# Altium schematic symbol library Connectors.SchLib: 50 symbols
Pins are listed as number, name and electrical type; pins without a type are passive.

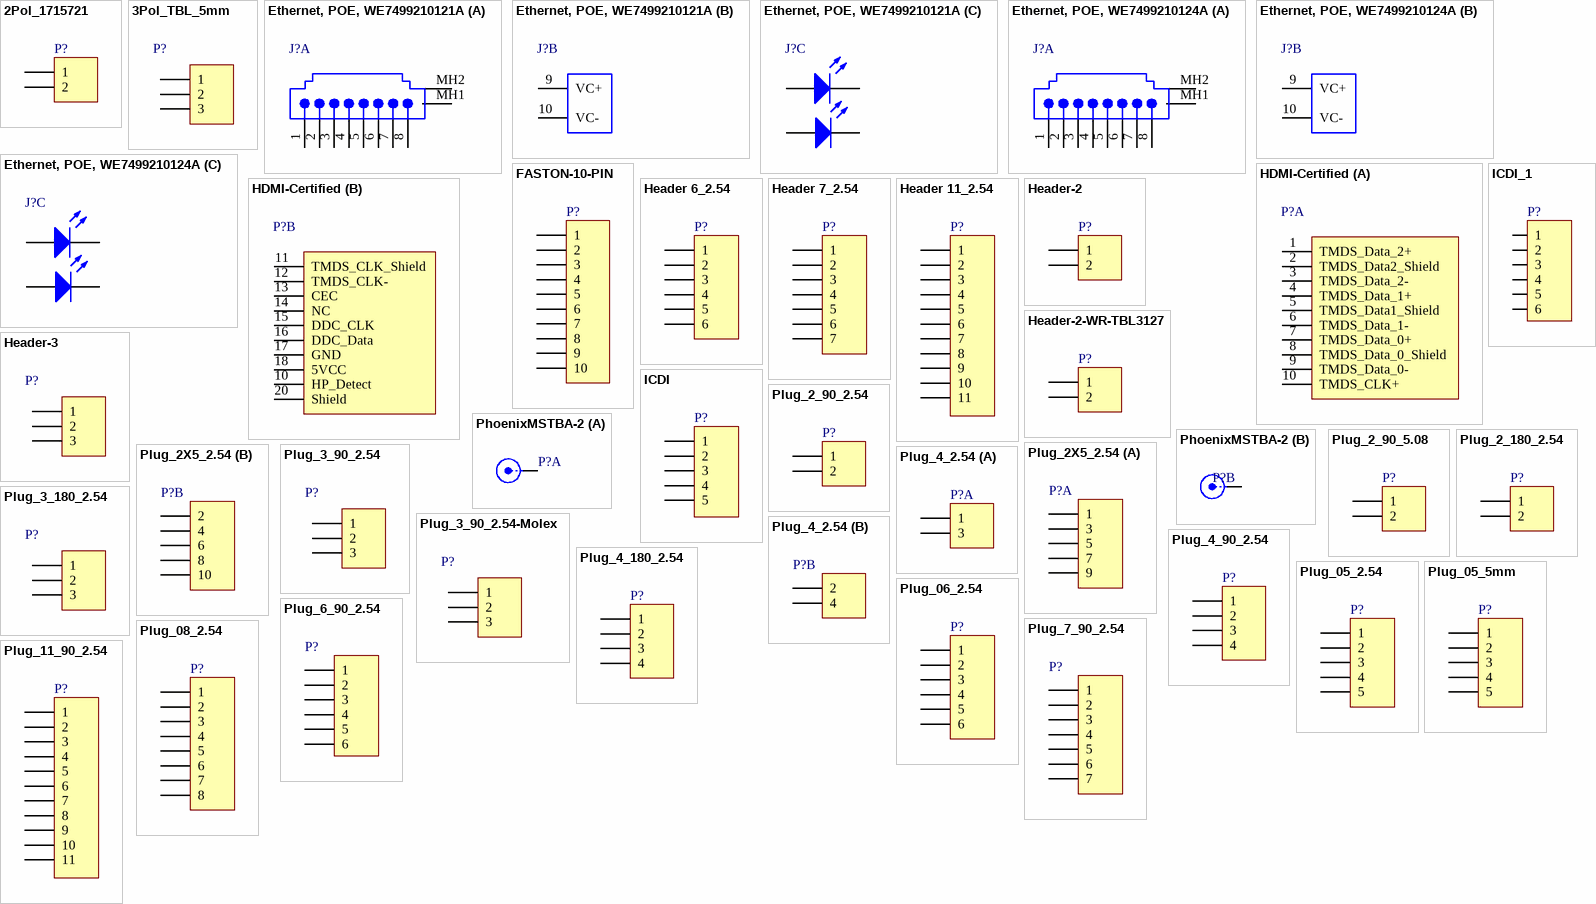
[diagram p0: symbols 2Pol_1715721 to Plug_11_90_2.54]

## 2Pol_1715721
designator P?, comment PHOENIX_1715721  (value not drawn)
Phoenix, 2 pol, 5.08mm, 22A, 715721; Deliverer PartNr: 193-0564; Deliverer: RS; TDE-PN: CON0008; LatestRevisionDate: 02.05.2014; LatestRevisionNote: Re-released for DXP Platform.; Publisher: Sebastian Kulik; Manufacturer PartNr: 1715721; Manufacturer: Phoenix; PackageDescription: Phoenix-2-5_08
signal-integrity model Connector
footprint Phoenix-2-5_08 (Phoenix, 1715721)
pins: 1, 2

## 3Pol_TBL_5mm
designator P?  (value not drawn)
Plug,-3-Pin; Manufacturer: WE; Manufacturer PartNr: 691102710003; Deliverer PartNr: 826-7220; Deliverer: RS; TDE-PN: CON0044; Publisher: Sebastian Kulik; Price: 1.26/1
footprint WE-TBL3-5 (WE, 691102710003)
pins: 1, 2, 3

## Ethernet, POE, WE7499210121A
designator J?, comment 7499210121A  (value not drawn)
Modular Jack , Right Angle RJ-45, Low Profile; Deliverer PartNr: 1636396; Manufacturer: Wuerth Elektronik; Ports: 1; PCB_Mounting: Thru-Hole; Deliverer: Farnell; TDE-PN: CON0005; PackageDescription: 7499210121A; Publisher: Sebastian Kulik; Manufacturer PartNr: 7499210121A
footprint 7499210121A (Connector; PCB Jack, Thru-Hole; RJ45,POE; Shielded with Lightpipes; Right Angle)
signal-integrity model Modular Jack
part A pins: 1, 2, 3, 4, 5, 6, 7, 8, MH1 Shield, MH2 Shield
part B pins: 9 VC+, 10 VC-
part C pins: 11 K, 12 A, 13 A, 14 K

## Ethernet, POE, WE7499210124A
designator J?, comment 7499210124A  (value not drawn)
Modular Jack , Right Angle RJ-45, Low Profile; Manufacturer: Wuerth Elektronik; Ports: 1; PCB_Mounting: Thru-Hole; Deliverer: WE; TDE-PN: CON0013; PackageDescription: 7499210124A; Publisher: Sebastian Kulik; Deliverer PartNr: 7499210124A; Manufacturer PartNr: 7499210124A
footprint 7499210124A (Connector; PCB Jack, Thru-Hole; RJ45,POE; Shielded with Lightpipes; Right Angle)
signal-integrity model Modular Jack
part A pins: 1, 2, 3, 4, 5, 6, 7, 8, MH1 Shield, MH2 Shield
part B pins: 9 VC+, 10 VC-
part C pins: 11 K, 12 A, 13 K, 14 A

## FASTON-10-PIN
designator P?  (value not drawn)
Manufacturer PartNr: 7460553; Manufacturer: WE; TDE-PN: CON0034; LatestRevisionDate: 07.11.2014; LatestRevisionNote: Re-released for DXP Platform.; Publisher: Sebastian Kulik; Deliverer: WE; Deliverer PartNr: 7460553
footprint FASTON_DOUBLE
signal-integrity model Connector
footprint FASTON_DOUBLE-WE (We-7460553)
pins: 1, 2, 3, 4, 5, 6, 7, 8, 9, 10

## HDMI-Certified
designator P?  (value not drawn)
Molex, HDMI; Deliverer PartNr: 1654540; Manufacturer PartNr: 47151-0001; PCB_Mounting: SMT; Deliverer: Farnell; TDE-PN: CON0002; PackageDescription: 47151-0001; Publisher: Sebastian Kulik; Manufacturer: Molex
footprint HDMI-Certified (Molex,47151-0001)
signal-integrity model Modular Jack
part A pins: 1 TMDS_Data_2+, 2 TMDS_Data2_Shield, 3 TMDS_Data_2-, 4 TMDS_Data_1+, 5 TMDS_Data1_Shield, 6 TMDS_Data_1-, 7 TMDS_Data_0+, 8 TMDS_Data_0_Shield, 9 TMDS_Data_0-, 10 TMDS_CLK+
part B pins: 10 HP_Detect, 11 TMDS_CLK_Shield, 12 TMDS_CLK-, 13 CEC, 14 NC, 15 DDC_CLK, 16 DDC_Data, 17 GND, 18 5VCC, 20 Shield

## Header 6_2.54
designator P?  (value not drawn)
Header, 6-Pin; LatestRevisionDate: 17-Jul-2002; LatestRevisionNote: Re-released for DXP Platform.; Publisher: Altium Limited
signal-integrity model Connector
footprint HDR1X6_2.54 (Connector; Header; 6 Position)
pins: 1, 2, 3, 4, 5, 6

## Header 7_2.54
designator P?  (value not drawn)
Header, 7-Pin; LatestRevisionDate: 17-Jul-2002; LatestRevisionNote: Re-released for DXP Platform.; Publisher: Altium Limited
footprint HDR1X7_2.54 (Connector; Header; 7 Position)
signal-integrity model Connector
pins: 1, 2, 3, 4, 5, 6, 7

## Header 11_2.54
designator P?  (value not drawn)
Header, 11-Pin; LatestRevisionDate: 17-Jul-2002; LatestRevisionNote: Re-released for DXP Platform.; Publisher: Altium Limited
footprint HDR1X11_2.54 (Connector; Header; 11 Position)
signal-integrity model Connector
footprint HDR1X11_2.54_SMD (Connector; Header; 11 Position)
footprint HDR1X11_2.54-DOWN (Connector; Header; 11 Position)
pins: 1, 2, 3, 4, 5, 6, 7, 8, 9, 10, 11

## Header-2
designator P?  (value not drawn)
Header, 2-Pin; LatestRevisionDate: 18.02.2014; LatestRevisionNote: Re-released for DXP Platform.; Publisher: Sebastian Kulik
footprint HDR1X2 (Connector; Header; 2 Position)
signal-integrity model Connector
footprint HDR1X2-SMD (Connector; Header; 2 Position)
footprint HDR1X2-down (Connector; Header; 2 Position)
pins: 1, 2

## Header-2-WR-TBL3127
designator P?, comment WR-TBL3127  (value not drawn)
Header 2 pin, horizontal,WR-TBL3127; Manufacturer PartNr: 691312710002; Manufacturer: WE; Deliverer PartNr: 1841288; Deliverer: Farnell; TDE-PN: CON0014; LatestRevisionDate: 28.05.2014; LatestRevisionNote: Re-released for DXP Platform.; Publisher: Sebastian Kulik; PackageDescription: WR-TBL-3127
signal-integrity model Connector
footprint WR-TBL-3127 (Header horizontal, 2 pins)
pins: 1, 2

## Header-3
designator P?  (value not drawn)
Header-3-Pin; Publisher: Sebastian Kulik
footprint HDR1X3 (Connector; Header; 3 Position)
footprint HDR1X3-SMD (Connector; Header; 3 Position)
footprint HDR1X3-DOWN (Connector; Header; 3 Position)
pins: 1, 2, 3

## ICDI
designator P?  (value not drawn)
Header, 5-Pin; LatestRevisionDate: 17-Jul-2002; LatestRevisionNote: Re-released for DXP Platform.; Publisher: Sebastian Kulik; PackageDescription: HDR1X1.27
footprint HDR1X5-1.27 (Connector; Header; 5 Position)
signal-integrity model Connector
pins: 1, 2, 3, 4, 5

## ICDI_1
designator P?, comment JTAG  (value not drawn)
Header, 6-Pin; LatestRevisionDate: 17-Jul-2002; LatestRevisionNote: Re-released for DXP Platform.; Publisher: Sebastian Kulik; PackageDescription: HDR1X1.27
footprint HDR1X6-1.27 (Connector; Header; 6 Position)
signal-integrity model Connector
pins: 1, 2, 3, 4, 5, 6

## PhoenixMSTBA-2
designator P?  (value not drawn)
Deliverer PartNr: 2315182; Manufacturer PartNr: MSTBA 2,5/ 2-G-5,08-LR; Manufacturer: Phoenix Contact; Deliverer: Farnell; TDE-PN: CON0006; LatestRevisionDate: 13.03.2014; LatestRevisionNote: Re-released for DXP Platform.; Publisher: Sebastian Kulik; PackageDescription: MSTBA 2,5_2-G-5,08-LR
footprint MSTBA 2,5_2-G-5,08-LR
signal-integrity model Connector
part A pins: 1 X
part B pins: 2 Y

## Plug_2_90_2.54
designator P?  (value not drawn)
Plug, 2-Pin; Manufacturer PartNr: 61300211021; Manufacturer: WE; Deliverer PartNr: 2356176; Deliverer: Farnell; TDE-PN: CON0010; LatestRevisionDate: 14.05.2014; LatestRevisionNote: Re-released for DXP Platform.; Publisher: Sebastian Kulik
footprint HDR1X2 (Connector; Header; 2 Position)
signal-integrity model Connector
footprint HDR1X2-SMD (Connector; Header; 2 Position)
footprint HDR1X2-down (Connector; Header; 2 Position)
pins: 1, 2

## Plug_2_90_5.08
designator P?  (value not drawn)
Plug, 2-Pin; Manufacturer PartNr: FWS-02-02-T-S-RA; Manufacturer: Samtec; Deliverer PartNr: 1936038; Deliverer: Farnell; TDE-PN: CON0012; LatestRevisionDate: 19.05.2014; LatestRevisionNote: Re-released for DXP Platform.; Publisher: Sebastian Kulik
signal-integrity model Connector
footprint HeaderPower-2-5_08 (Samtec, FWS-02-02-T-S-RA)
footprint HeaderPower-2-5_08-hor (Samtec, FWS-02-02-T-S-RA)
pins: 1, 2

## Plug_2_180_2.54
designator P?  (value not drawn)
Plug, 2-Pin; Manufacturer PartNr: 61300211121; Manufacturer: WE; Deliverer PartNr: 828-1581; Deliverer: RS; TDE-PN: CON0010; LatestRevisionDate: 14.05.2014; LatestRevisionNote: Re-released for DXP Platform.; Publisher: Sebastian Kulik; Price: 0.118/5
footprint HDR1X2 (Connector; Header; 2 Position)
signal-integrity model Connector
pins: 1, 2

## Plug_2X5_2.54
designator P?  (value not drawn)
Plug, 2x5-Pin; Manufacturer PartNr: 6130102121; Manufacturer: WE; Deliverer: Farnell; TDE-PN: CON0016; LatestRevisionDate: 19.05-.2014; LatestRevisionNote: Re-released for DXP Platform.; Publisher: Sebastian Kulik; Deliverer PartNr: 6130102121; PackageDescription: HDR2x5
footprint HDR2X5 (Connector; Header; 10 Position)
signal-integrity model Connector
part A pins: 1, 3, 5, 7, 9
part B pins: 2, 4, 6, 8, 10

## Plug_3_90_2.54
designator P?  (value not drawn)
Plug,-3-Pin; Manufacturer: WE; Manufacturer PartNr: 61300311021; Deliverer PartNr: 828-1585; Deliverer: RS; TDE-PN: CON0011; Publisher: Sebastian Kulik; Price: 0.138/5
footprint HDR1X3 (Connector; Header; 3 Position)
pins: 1, 2, 3

## Plug_3_90_2.54-Molex
designator P?  (value not drawn)
Plug,-3-Pin; Manufacturer: Molex; Deliverer PartNr: 1462950; Deliverer: Farnell; TDE-PN: CON0038; Publisher: Sebastian Kulik; Manufacturer PartNr: 22-23-2031
footprint 22-23-2031
pins: 1, 2, 3

## Plug_3_180_2.54
designator P?  (value not drawn)
Plug,-3-Pin; Manufacturer: WE; Manufacturer PartNr: 61300311021; TDE-PN: CON0040; Publisher: Sebastian Kulik; Deliverer: WE; Deliverer PartNr: 61300311021
footprint HDR1X3-SMD (Connector; Header; 3 Position)
footprint HDR1X3-DOWN (Connector; Header; 3 Position)
pins: 1, 2, 3

## Plug_4_2.54
designator P?  (value not drawn)
Plug, 4-Pin; Manufacturer PartNr: 61300421121; Manufacturer: WE; TDE-PN: CON0017; LatestRevisionDate: 19.05.2014; LatestRevisionNote: Re-released for DXP Platform.; Publisher: Sebastian Kulik; Deliverer: WE; Deliverer PartNr: 61300421121; PackageDescription: HDR2X2
footprint HDR2X2 (Connector; Header; 4 Position)
signal-integrity model Connector
part A pins: 1, 3
part B pins: 2, 4

## Plug_4_90_2.54
designator P?  (value not drawn)
Plug, 4-Pin; Manufacturer PartNr: 613 004 111 21; Manufacturer: WE; TDE-PN: CON0033; LatestRevisionDate: 06.11.2014; LatestRevisionNote: Re-released for DXP Platform.; Publisher: Sebastian Kulik; Deliverer: WE; Deliverer PartNr: 613 004 111 21
footprint HDR1X4 (Connector; Header; 4 Position)
signal-integrity model Connector
pins: 1, 2, 3, 4

## Plug_4_180_2.54
designator P?  (value not drawn)
Plug, 4-Pin; Manufacturer PartNr: 61300411021; Manufacturer: WE; TDE-PN: CON0041; LatestRevisionDate: 28.01.2015; LatestRevisionNote: Re-released for DXP Platform.; Publisher: Sebastian Kulik; Deliverer: WE; Deliverer PartNr: 61300411021
footprint HDR1X4-Down (Connector; Header; 4 Position)
signal-integrity model Connector
pins: 1, 2, 3, 4

## Plug_05_2.54
designator P?  (value not drawn)
Plug, 08-Pin; Manufacturer PartNr: 61300511121; Manufacturer: WE; TDE-PN: CON0036; LatestRevisionDate: 11.11.2014; LatestRevisionNote: Re-released for DXP Platform.; Publisher: Sebastian Kulik; Deliverer: WE; Deliverer PartNr: 61300511121
signal-integrity model Connector
footprint HDR1X5_2.54 (Connector; Header; 5 Position)
pins: 1, 2, 3, 4, 5

## Plug_05_5mm
designator P?  (value not drawn)
Plug, 08-Pin; Manufacturer PartNr: 1715187; Manufacturer: Phoenix Contact; Deliverer PartNr: 2509901353; Deliverer: RS Components; TDE-PN: CON0037; LatestRevisionDate: 19.11.2014; LatestRevisionNote: Re-released for DXP Platform.; Publisher: Sebastian Kulik
signal-integrity model Connector
footprint CONNECTOR_5_POL-5mm (Phoenix Contact 1715187)
pins: 1, 2, 3, 4, 5

## Plug_06_2.54
designator P?  (value not drawn)
Plug, 08-Pin; Manufacturer PartNr: 61300611121; Manufacturer: WE; TDE-PN: CON0039; LatestRevisionDate: 11.11.2014; LatestRevisionNote: Re-released for DXP Platform.; Publisher: Sebastian Kulik; Deliverer: WE; Deliverer PartNr: 61300611121
signal-integrity model Connector
footprint HDR1X6_2.54 (Connector; Header; 6 Position)
pins: 1, 2, 3, 4, 5, 6

## Plug_6_90_2.54
designator P?  (value not drawn)
Plug, 7-Pin; Manufacturer PartNr: 61300611021; Manufacturer: WE; Deliverer: Farnell; TDE-PN: CON0043; LatestRevisionDate: 02.06.2014; LatestRevisionNote: Re-released for DXP Platform.; Publisher: Sebastian Kulik; Deliverer PartNr: 61300611021; PackageDescription: HDR1X6_2.54-hor
footprint HDR1X6_2.54-hor (Connector; Header; 6 Position)
signal-integrity model Connector
pins: 1, 2, 3, 4, 5, 6

## Plug_7_90_2.54
designator P?  (value not drawn)
Plug, 7-Pin; Manufacturer PartNr: 61300711021; Manufacturer: WE; Deliverer PartNr: 2356182; Deliverer: Farnell; TDE-PN: CON0015; LatestRevisionDate: 02.06.2014; LatestRevisionNote: Re-released for DXP Platform.; Publisher: Sebastian Kulik; PackageDescription: HDR1X7_2.54-hor
footprint HDR1X7_2.54-hor (Connector; Header; 7 Position)
signal-integrity model Connector
pins: 1, 2, 3, 4, 5, 6, 7

## Plug_08_2.54
designator P?  (value not drawn)
Plug, 08-Pin; Manufacturer PartNr: 61300811121; Manufacturer: WE; TDE-PN: CON0035; LatestRevisionDate: 11.11.2014; LatestRevisionNote: Re-released for DXP Platform.; Publisher: Sebastian Kulik; Deliverer: WE; Deliverer PartNr: 61300811121
signal-integrity model Connector
footprint HDR1X8_2.54 (Connector; Header; 8 Position)
pins: 1, 2, 3, 4, 5, 6, 7, 8

## Plug_11_90_2.54
designator P?  (value not drawn)
Plug, 11-Pin; Manufacturer PartNr: HTSW-111-08-T-S-RA; Manufacturer: Semtec; Deliverer PartNr: 2009889; Deliverer: Farnell; TDE-PN: CON0009; LatestRevisionDate: 14.05.2014; LatestRevisionNote: Re-released for DXP Platform.; Publisher: Sebastian Kulik
footprint HDR1X11_2.54 (Connector; Header; 11 Position)
signal-integrity model Connector
footprint HDR1X11_2.54_SMD (Connector; Header; 11 Position)
footprint HDR1X11_2.54-DOWN (Connector; Header; 11 Position)
pins: 1, 2, 3, 4, 5, 6, 7, 8, 9, 10, 11

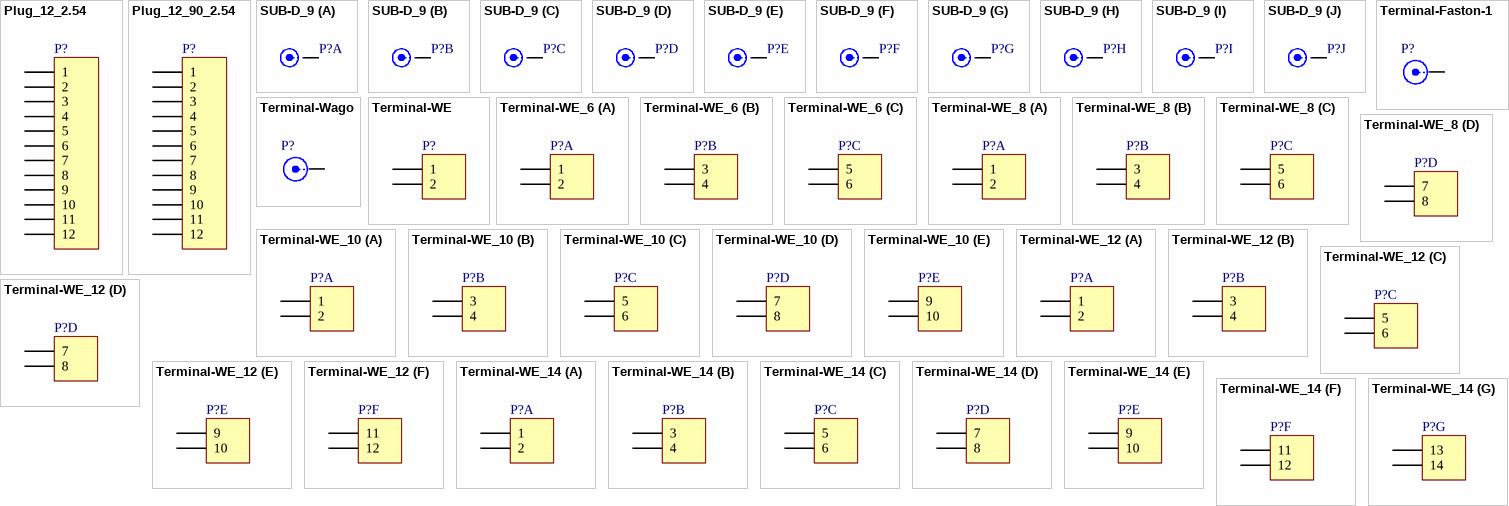
[diagram p1: symbols Plug_12_2.54 to Terminal-WE_14]

## Plug_12_2.54
designator P?  (value not drawn)
Plug, 11-Pin; Manufacturer PartNr: 61301211121; Manufacturer: WE; TDE-PN: CON0018; LatestRevisionDate: 27.05.2014; LatestRevisionNote: Re-released for DXP Platform.; Publisher: Sebastian Kulik; Deliverer: WE; Deliverer PartNr: 61301211121
signal-integrity model Connector
footprint HDR1X12_2.54 (Connector; Header; 11 Position)
pins: 1, 2, 3, 4, 5, 6, 7, 8, 9, 10, 11, 12

## Plug_12_90_2.54
designator P?  (value not drawn)
Plug, 11-Pin; Manufacturer PartNr: 61301211021; Manufacturer: WE; TDE-PN: CON0019; LatestRevisionDate: 27.05.2014; LatestRevisionNote: Re-released for DXP Platform.; Publisher: Sebastian Kulik; Deliverer: WE; Deliverer PartNr: 61301211021
footprint HDR1X12_2.54-Down (Connector; Header; 11 Position)
signal-integrity model Connector
pins: 1, 2, 3, 4, 5, 6, 7, 8, 9, 10, 11, 12

## SUB-D_9
designator P?  (value not drawn)
Deliverer PartNr: 1-1634580-2; Manufacturer: AMP; Deliverer: Arrow; TDE-PN: CON0007; LatestRevisionDate: 14.03.2014; LatestRevisionNote: Re-released for DXP Platform.; Publisher: Sebastian Kulik; Manufacturer PartNr: 1-1634580-2; PackageDescription: M09HP
footprint M09HP
signal-integrity model Connector
part A pins: 1
part B pins: 2
part C pins: 3
part D pins: 4
part E pins: 5
part F pins: 6
part G pins: 7
part H pins: 8
part I pins: 9
part J pins: 10 GND

## Terminal-Faston-1
designator P?  (value not drawn)
Faston terminal, 4,8x0,8mm; Deliverer PartNr: 2308760; Manufacturer: AMP/TE; Manufacturer PartNr: 1-726388-2; TDE-PN: CON0042; Deliverer: Farnell; LatestRevisionDate: 06.02.2015; Publisher: Sebastian Kulik
footprint Faston-4,8x0,8mm (TE, 1-726388-2)
signal-integrity model Connector
pins: 1 X

## Terminal-Wago
designator P?  (value not drawn)
Wago terminal; LatestRevisionDate: 17-Jul-2002; LatestRevisionNote: Re-released for DXP Platform.; Publisher: Altium Limited
footprint WAGO-243-131
signal-integrity model Connector
pins: 1 X

## Terminal-WE
designator P?  (value not drawn)
Plug, 2-Pin; Manufacturer PartNr: 691401710002B; Manufacturer: WE; TDE-PN: CON0022; LatestRevisionDate: 11.08.2014; LatestRevisionNote: Re-released for DXP Platform.; Publisher: Sebastian Kulik; Deliverer: WE; Deliverer PartNr: 691401710002B
footprint WE-691401710002B
signal-integrity model Connector
pins: 1, 2

## Terminal-WE_6
designator P?, comment Terminal-WE-6  (value not drawn)
Plug, 6-Pin; Manufacturer PartNr: 691401710006B; Manufacturer: WE; TDE-PN: CON0031; LatestRevisionDate: 19.08.2014; LatestRevisionNote: Re-released for DXP Platform.; Publisher: Sebastian Kulik; Deliverer: WE; Deliverer PartNr: 691401710006B
footprint WE-691401710006B
signal-integrity model Connector
part A pins: 1, 2
part B pins: 3, 4
part C pins: 5, 6

## Terminal-WE_8
designator P?, comment Terminal-WE-8  (value not drawn)
Plug, 8-Pin; Manufacturer PartNr: 691401710008B; Manufacturer: WE; TDE-PN: CON0032; LatestRevisionDate: 19.08.2014; LatestRevisionNote: Re-released for DXP Platform.; Publisher: Sebastian Kulik; Deliverer: WE; Deliverer PartNr: 691401710008B
footprint WE-691401710008B
signal-integrity model Connector
part A pins: 1, 2
part B pins: 3, 4
part C pins: 5, 6
part D pins: 7, 8

## Terminal-WE_10
designator P?, comment Terminal-WE-10  (value not drawn)
Plug, 10-Pin; Manufacturer PartNr: 691401710010B; Manufacturer: WE; TDE-PN: CON0026; LatestRevisionDate: 11.08.2014; LatestRevisionNote: Re-released for DXP Platform.; Publisher: Sebastian Kulik; Deliverer: WE; Deliverer PartNr: 691401710010B
footprint WE-691401710010B
signal-integrity model Connector
part A pins: 1, 2
part B pins: 3, 4
part C pins: 5, 6
part D pins: 7, 8
part E pins: 9, 10

## Terminal-WE_12
designator P?, comment Terminal-WE-12  (value not drawn)
Plug, 12-Pin; Manufacturer PartNr: 691401710012B; Manufacturer: WE; TDE-PN: CON0028; LatestRevisionDate: 13.08.2014; LatestRevisionNote: Re-released for DXP Platform.; Publisher: Sebastian Kulik; Deliverer: WE; Deliverer PartNr: 691401710012B
footprint WE-691401710012B
signal-integrity model Connector
part A pins: 1, 2
part B pins: 3, 4
part C pins: 5, 6
part D pins: 7, 8
part E pins: 9, 10
part F pins: 11, 12

## Terminal-WE_14
designator P?, comment Terminal-WE-14  (value not drawn)
Plug, 14-Pin; Manufacturer PartNr: 691401710014B; Manufacturer: WE; TDE-PN: CON0027; LatestRevisionDate: 11.08.2014; LatestRevisionNote: Re-released for DXP Platform.; Publisher: Sebastian Kulik; Deliverer: WE; Deliverer PartNr: 691401710014B
footprint WE-691401710014B
signal-integrity model Connector
part A pins: 1, 2
part B pins: 3, 4
part C pins: 5, 6
part D pins: 7, 8
part E pins: 9, 10
part F pins: 11, 12
part G pins: 13, 14

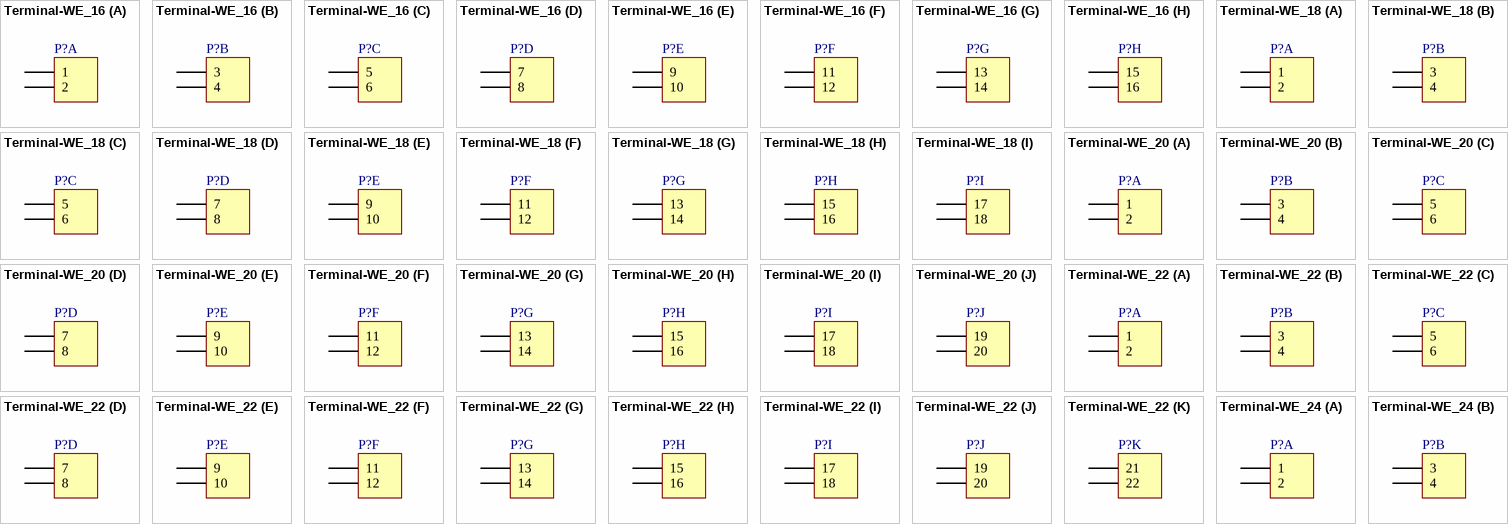
[diagram p2: symbols Terminal-WE_16 to Terminal-WE_24]

## Terminal-WE_16
designator P?, comment Terminal-WE-16  (value not drawn)
Plug, 16-Pin; Manufacturer PartNr: 691401710016B; Manufacturer: WE; TDE-PN: CON0024; LatestRevisionDate: 11.08.2014; LatestRevisionNote: Re-released for DXP Platform.; Publisher: Sebastian Kulik; Deliverer: WE; Deliverer PartNr: 691401710016B
footprint WE-691401710016B
signal-integrity model Connector
part A pins: 1, 2
part B pins: 3, 4
part C pins: 5, 6
part D pins: 7, 8
part E pins: 9, 10
part F pins: 11, 12
part G pins: 13, 14
part H pins: 15, 16

## Terminal-WE_18
designator P?, comment Terminal-WE-18  (value not drawn)
Plug, 18-Pin; Manufacturer PartNr: 691401710018B; Manufacturer: WE; TDE-PN: CON0025; LatestRevisionDate: 11.08.2014; LatestRevisionNote: Re-released for DXP Platform.; Publisher: Sebastian Kulik; Deliverer: WE; Deliverer PartNr: 691401710018B
footprint WE-691401710018B
signal-integrity model Connector
part A pins: 1, 2
part B pins: 3, 4
part C pins: 5, 6
part D pins: 7, 8
part E pins: 9, 10
part F pins: 11, 12
part G pins: 13, 14
part H pins: 15, 16
part I pins: 17, 18

## Terminal-WE_20
designator P?, comment Terminal-WE-20  (value not drawn)
Plug, 20-Pin; Manufacturer PartNr: 691401710020B; Manufacturer: WE; TDE-PN: CON0023; LatestRevisionDate: 11.08.2014; LatestRevisionNote: Re-released for DXP Platform.; Publisher: Sebastian Kulik; Deliverer: WE; Deliverer PartNr: 691401710020B
footprint WE-691401710020B
signal-integrity model Connector
part A pins: 1, 2
part B pins: 3, 4
part C pins: 5, 6
part D pins: 7, 8
part E pins: 9, 10
part F pins: 11, 12
part G pins: 13, 14
part H pins: 15, 16
part I pins: 17, 18
part J pins: 19, 20

## Terminal-WE_22
designator P?, comment Terminal-WE-22  (value not drawn)
Plug, 22-Pin; Manufacturer PartNr: 691401710022B; Manufacturer: WE; TDE-PN: CON0029; LatestRevisionDate: 19.08.2014; LatestRevisionNote: Re-released for DXP Platform.; Publisher: Sebastian Kulik; Deliverer: WE; Deliverer PartNr: 691401710022B
footprint WE-691401710022B
signal-integrity model Connector
part A pins: 1, 2
part B pins: 3, 4
part C pins: 5, 6
part D pins: 7, 8
part E pins: 9, 10
part F pins: 11, 12
part G pins: 13, 14
part H pins: 15, 16
part I pins: 17, 18
part J pins: 19, 20
part K pins: 21, 22

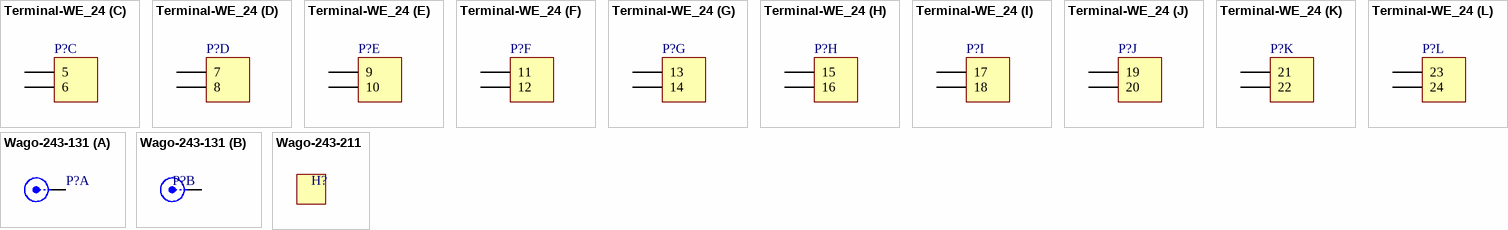
[diagram p3: symbols Terminal-WE_24 to Wago-243-211]

## Terminal-WE_24
designator P?, comment Terminal-WE-24  (value not drawn)
Plug, 24-Pin; Manufacturer PartNr: 691401710024B; Manufacturer: WE; TDE-PN: CON0030; LatestRevisionDate: 19.08.2014; LatestRevisionNote: Re-released for DXP Platform.; Publisher: Sebastian Kulik; Deliverer: WE; Deliverer PartNr: 691401710024B
footprint WE-691401710024B
signal-integrity model Connector
part A pins: 1, 2
part B pins: 3, 4
part C pins: 5, 6
part D pins: 7, 8
part E pins: 9, 10
part F pins: 11, 12
part G pins: 13, 14
part H pins: 15, 16
part I pins: 17, 18
part J pins: 19, 20
part K pins: 21, 22
part L pins: 23, 24

## Wago-243-131
designator P?  (value not drawn)
Manufacturer: Wago; TDE-PN: CON0020; LatestRevisionDate: 01.07.2014; LatestRevisionNote: Re-released for DXP Platform.; Publisher: Sebastian Kulik; Manufacturer PartNr: 243-131; Deliverer: *; Deliverer PartNr: *; PackageDescription: WAGO-243-131
footprint WAGO-243-131
signal-integrity model Connector
part A pins: 1 X
part B pins: 2 Y

## Wago-243-211
designator H?  (value not drawn)
Manufacturer: Wago; TDE-PN: CON0021; LatestRevisionDate: 01.07.2014; LatestRevisionNote: Re-released for DXP Platform.; Publisher: Sebastian Kulik; Manufacturer PartNr: 243-211; Deliverer: *; Deliverer PartNr: *; PackageDescription: WAGO-243-211
footprint WAGO-243-211
signal-integrity model Connector